# Altium schematic symbol library CS_symbols.SchLib: 156 symbols (part 2 of 2)
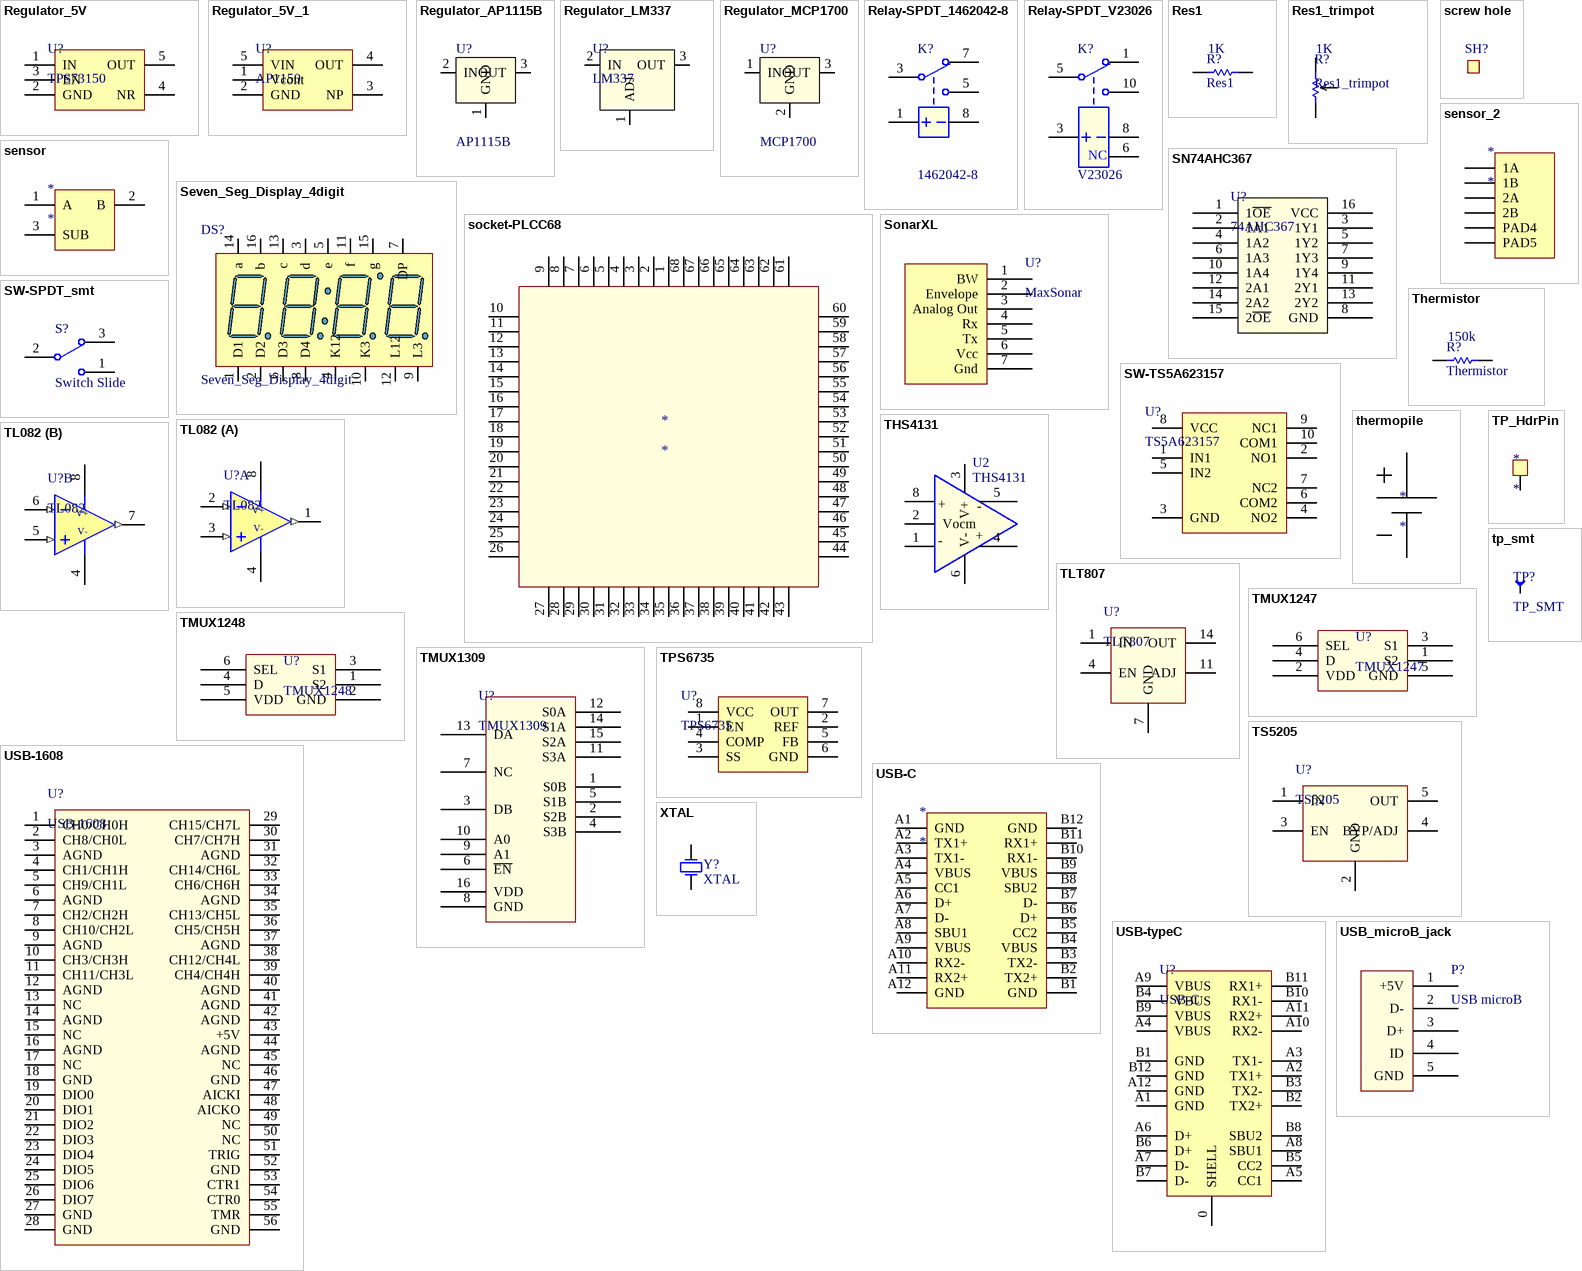
[diagram p7: symbols Regulator_5V to XTAL]

## TMUX1248
designator U?
IC Switch 2:1 3Ohm SC-70-6; manufacturer: Texas Instruments; manufacturer pn: TMUX1248DCKR; supplier pn: 296-TMUX1248DCKRCT-ND; supplier: digikey
footprint SC70
pins: 1 S2, 2 GND, 3 S1, 4 D, 5 VDD, 6 SEL

## TMUX1309
designator U?
2 Circuit IC Switch 4:1 195Ohm 16-WQFN (3.5x2.5); manufacturer: Texas Instruments; manufacturer pn: TMUX1309BQBR; supplier pn: 296-TMUX1309BQBRCT-ND; supplier: digikey
footprint WQFN-16 (Footprint not found)
pins: 1 S0B, 2 S2B, 3 DB, 4 S3B, 5 S1B, 6 ~{EN}, 7 NC, 8 GND, 9 A1, 10 A0, 11 S3A, 12 S0A, 13 DA, 14 S1A, 15 S2A, 16 VDD

## TP_HdrPin
designator *
Testpoint, Header Pin
pins: 1

## tp_smt
designator TP?, comment TP_SMT
testpoint SMT pad
pins: 1 TP

## TPS6735
designator U?
IC REG BUCK -5V 200MA 8SOIC; manufacturer: Texas Instruments; manufacturer pn: TPS6735IDR; supplier pn: 296-10982-1-ND; supplier: digikey
footprint SOIC-8 (SOIC, 8-Leads, Pitch 1.27mm, IPC Medium Density)
pins: 1 EN, 2 REF, 3 SS, 4 COMP, 5 FB, 6 GND, 7 OUT, 8 VCC

## TS5205
designator U?
IC REG LIN POS ADJ 150MA SOT25; manufacturer: TSMC; manufacturer pn: TS5205CX5 RFG; supplier pn: TS5205CX5RFGCT-ND; supplier: digikey
footprint SOT25
pins: 1 IN, 2 GND, 3 EN, 4 BYP/ADJ, 5 OUT

## USB-1608
designator U?
DAQ DEVICE MULTIFUNC I/O USB 2.0
pins: 1 CH0/CH0H, 2 CH8/CH0L, 3 AGND, 4 CH1/CH1H, 5 CH9/CH1L, 6 AGND, 7 CH2/CH2H, 8 CH10/CH2L, 9 AGND, 10 CH3/CH3H, 11 CH11/CH3L, 12 AGND, 13 NC, 14 AGND, 15 NC, 16 AGND, 17 NC, 18 GND, 19 DIO0, 20 DIO1, 21 DIO2, 22 DIO3, 23 DIO4, 24 DIO5, 25 DIO6, 26 DIO7, 27 GND, 28 GND, 29 CH15/CH7L, 30 CH7/CH7H, 31 AGND, 32 CH14/CH6L, 33 CH6/CH6H, 34 AGND, 35 CH13/CH5L, 36 CH5/CH5H, 37 AGND, 38 CH12/CH4L, 39 CH4/CH4H, 40 AGND, 41 AGND, 42 AGND, 43 +5V, 44 AGND, 45 NC, 46 GND, 47 AICKI, 48 AICKO, 49 NC, 50 NC, 51 TRIG, 52 GND, 53 CTR1, 54 CTR0, 55 TMR, 56 GND

## USB-C
designator *
pins: A1 GND, A2 TX1+, A3 TX1-, A4 VBUS, A5 CC1, A6 D+, A7 D-, A8 SBU1, A9 VBUS, A10 RX2-, A11 RX2+, A12 GND, B1 GND, B2 TX2+, B3 TX2-, B4 VBUS, B5 CC2, B6 D+, B7 D-, B8 SBU2, B9 VBUS, B10 RX1-, B11 RX1+, B12 GND

## USB-typeC
designator U?, comment USB-C
pins: 0 SHELL, A1 GND, A2 TX1+, A3 TX1-, A4 VBUS, A5 CC1, A6 D+, A7 D-, A8 SBU1, A9 VBUS, A10 RX2-, A11 RX2+, A12 GND, B1 GND, B2 TX2+, B3 TX2-, B4 VBUS, B5 CC2, B6 D+, B7 D-, B8 SBU2, B9 VBUS, B10 RX1-, B11 RX1+, B12 GND

## USB_microB_jack
designator P?, comment USB microB
CONN RCPT USB2.0 MICRO B SMD R/A; manufacturer: Amphenol; manufacturer pn: 10118192-0001LF; supplier pn: 609-4613-1-ND; supplier: digikey
footprint USB_microB_jack (pcb mount USB micro B jack)
pins: 1 +5V, 2 D-, 3 D+, 4 ID, 5 GND

## XTAL
designator Y?
Crystal Oscillator; Published: 8-Jun-2000; LatestRevisionDate: 17-Jul-2002; LatestRevisionNote: Re-released for DXP Platform.; PackageReference: R38; Publisher: Altium Limited; PackageDescription: Crystal, Thru-Hole; 2 Leads; Body 3.1 x 8.2 mm (Dia.xH)
footprint R38 (Crystal, Thru-Hole; 2 Leads; Body 3.1 x 8.2 mm (Dia.xH))
simulation model XTAL (Spice Subcircuit)
pins: 1 OSC1, 2 OSC2

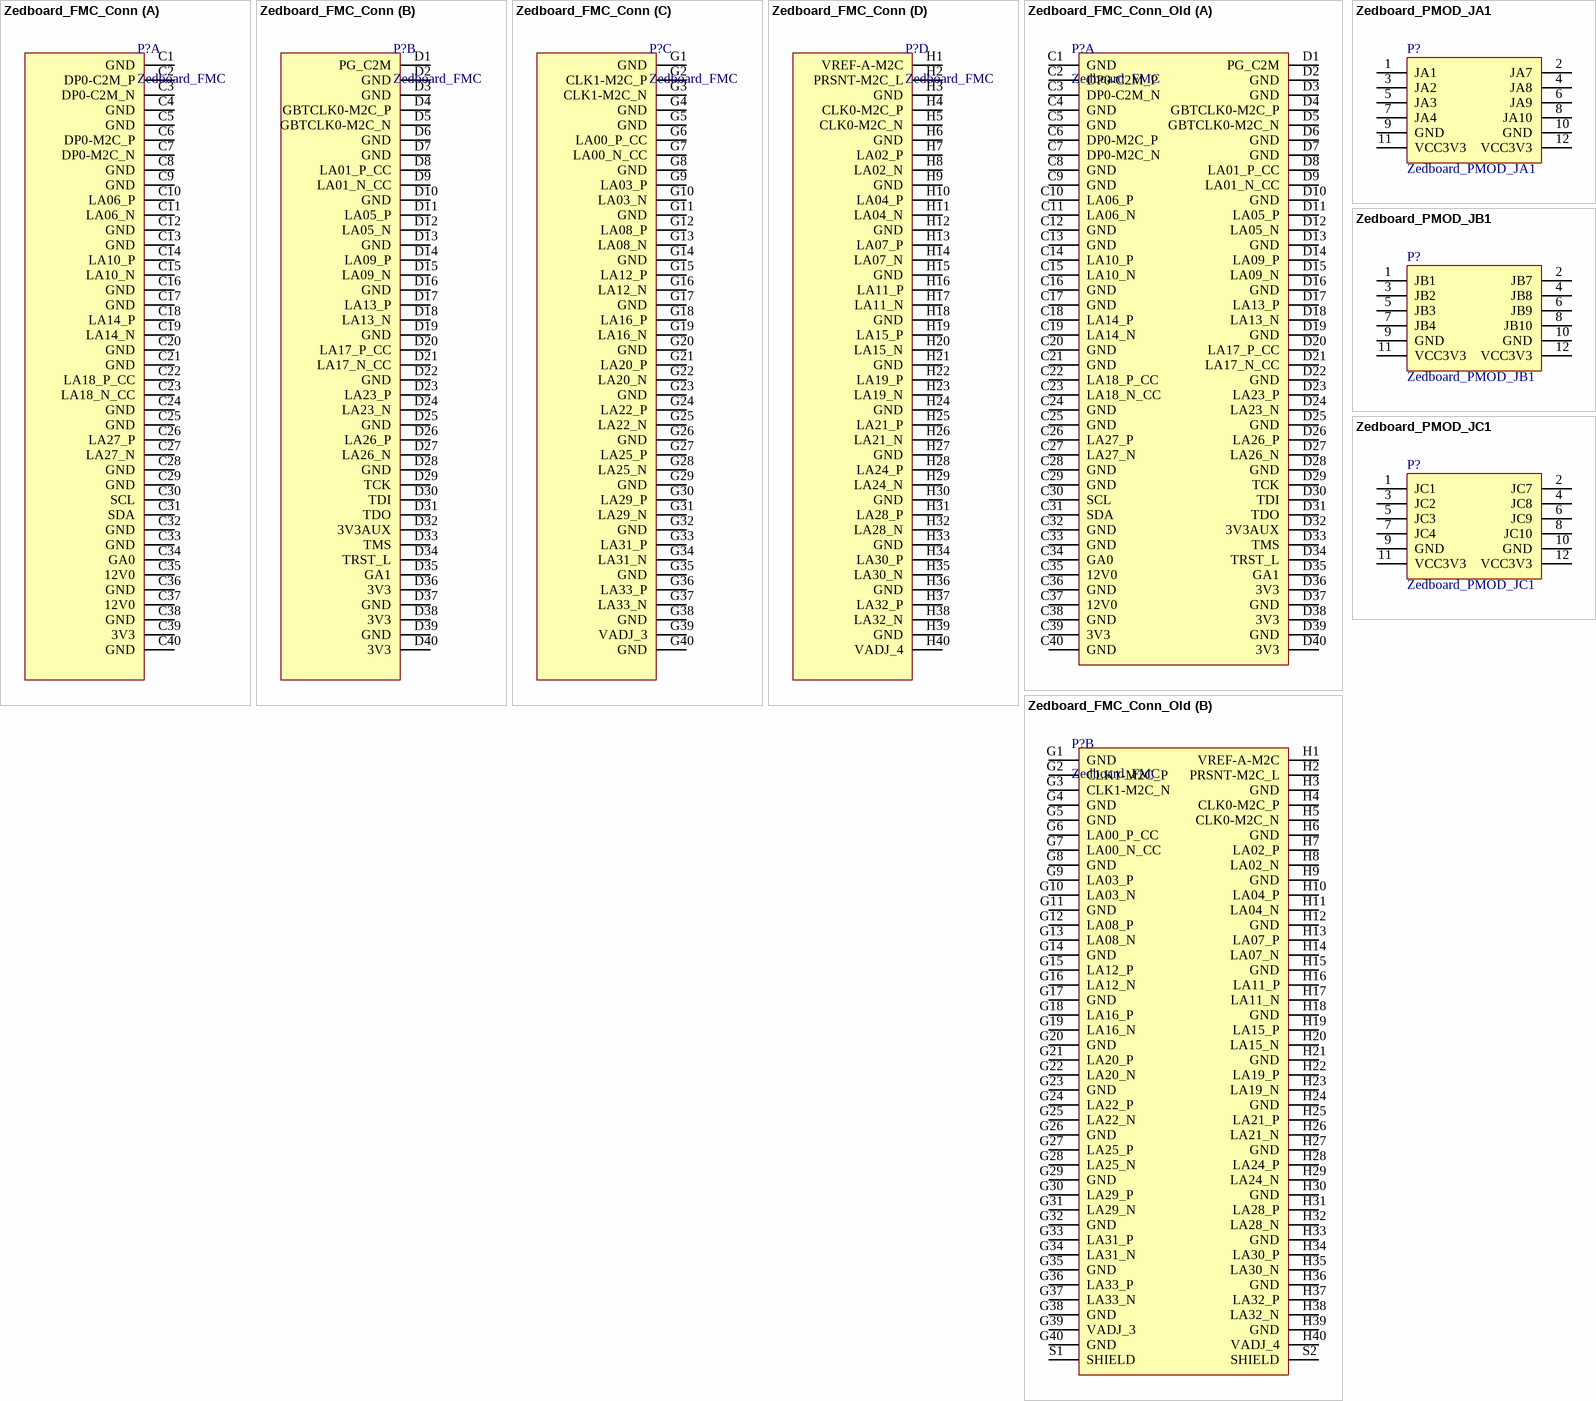
[diagram p6: symbols Zedboard_FMC_Conn to Zedboard_PMOD_JC1]

## Zedboard_FMC_Conn
designator P?, comment Zedboard_FMC
FMC Connector 160POS SMD VITA 57.1; manufacturer: Samtech Inc; manufacturer pn: ASP-134604-01X; supplier: digikey; supplier pn: SAM8732CT-ND
footprint FMC_LPC (FMC low pin count connector that mates to Xilinx zedboard)
part A pins: C1 GND, C2 DP0-C2M_P, C3 DP0-C2M_N, C4 GND, C5 GND, C6 DP0-M2C_P, C7 DP0-M2C_N, C8 GND, C9 GND, C10 LA06_P, C11 LA06_N, C12 GND, C13 GND, C14 LA10_P, C15 LA10_N, C16 GND, C17 GND, C18 LA14_P, C19 LA14_N, C20 GND, C21 GND, C22 LA18_P_CC, C23 LA18_N_CC, C24 GND, C25 GND, C26 LA27_P, C27 LA27_N, C28 GND, C29 GND, C30 SCL, C31 SDA, C32 GND, C33 GND, C34 GA0, C35 12V0, C36 GND, C37 12V0, C38 GND, C39 3V3, C40 GND
part B pins: D1 PG_C2M, D2 GND, D3 GND, D4 GBTCLK0-M2C_P, D5 GBTCLK0-M2C_N, D6 GND, D7 GND, D8 LA01_P_CC, D9 LA01_N_CC, D10 GND, D11 LA05_P, D12 LA05_N, D13 GND, D14 LA09_P, D15 LA09_N, D16 GND, D17 LA13_P, D18 LA13_N, D19 GND, D20 LA17_P_CC, D21 LA17_N_CC, D22 GND, D23 LA23_P, D24 LA23_N, D25 GND, D26 LA26_P, D27 LA26_N, D28 GND, D29 TCK, D30 TDI, D31 TDO, D32 3V3AUX, D33 TMS, D34 TRST_L, D35 GA1, D36 3V3, D37 GND, D38 3V3, D39 GND, D40 3V3
part C pins: G1 GND, G2 CLK1-M2C_P, G3 CLK1-M2C_N, G4 GND, G5 GND, G6 LA00_P_CC, G7 LA00_N_CC, G8 GND, G9 LA03_P, G10 LA03_N, G11 GND, G12 LA08_P, G13 LA08_N, G14 GND, G15 LA12_P, G16 LA12_N, G17 GND, G18 LA16_P, G19 LA16_N, G20 GND, G21 LA20_P, G22 LA20_N, G23 GND, G24 LA22_P, G25 LA22_N, G26 GND, G27 LA25_P, G28 LA25_N, G29 GND, G30 LA29_P, G31 LA29_N, G32 GND, G33 LA31_P, G34 LA31_N, G35 GND, G36 LA33_P, G37 LA33_N, G38 GND, G39 VADJ_3, G40 GND
part D pins: H1 VREF-A-M2C, H2 PRSNT-M2C_L, H3 GND, H4 CLK0-M2C_P, H5 CLK0-M2C_N, H6 GND, H7 LA02_P, H8 LA02_N, H9 GND, H10 LA04_P, H11 LA04_N, H12 GND, H13 LA07_P, H14 LA07_N, H15 GND, H16 LA11_P, H17 LA11_N, H18 GND, H19 LA15_P, H20 LA15_N, H21 GND, H22 LA19_P, H23 LA19_N, H24 GND, H25 LA21_P, H26 LA21_N, H27 GND, H28 LA24_P, H29 LA24_N, H30 GND, H31 LA28_P, H32 LA28_N, H33 GND, H34 LA30_P, H35 LA30_N, H36 GND, H37 LA32_P, H38 LA32_N, H39 GND, H40 VADJ_4

## Zedboard_FMC_Conn_Old
designator P?, comment Zedboard_FMC
FMC Connector 160POS SMD VITA 57.1; manufacturer: Samtech Inc; manufacturer pn: ASP-134604-01X; supplier: digikey; supplier pn: SAM8732CT-ND
footprint FMC_LPC (FMC low pin count connector that mates to Xilinx zedboard)
part A pins: C1 GND, C2 DP0-C2M_P, C3 DP0-C2M_N, C4 GND, C5 GND, C6 DP0-M2C_P, C7 DP0-M2C_N, C8 GND, C9 GND, C10 LA06_P, C11 LA06_N, C12 GND, C13 GND, C14 LA10_P, C15 LA10_N, C16 GND, C17 GND, C18 LA14_P, C19 LA14_N, C20 GND, C21 GND, C22 LA18_P_CC, C23 LA18_N_CC, C24 GND, C25 GND, C26 LA27_P, C27 LA27_N, C28 GND, C29 GND, C30 SCL, C31 SDA, C32 GND, C33 GND, C34 GA0, C35 12V0, C36 GND, C37 12V0, C38 GND, C39 3V3, C40 GND, D1 PG_C2M, D2 GND, D3 GND, D4 GBTCLK0-M2C_P, D5 GBTCLK0-M2C_N, D6 GND, D7 GND, D8 LA01_P_CC, D9 LA01_N_CC, D10 GND, D11 LA05_P, D12 LA05_N, D13 GND, D14 LA09_P, D15 LA09_N, D16 GND, D17 LA13_P, D18 LA13_N, D19 GND, D20 LA17_P_CC, D21 LA17_N_CC, D22 GND, D23 LA23_P, D24 LA23_N, D25 GND, D26 LA26_P, D27 LA26_N, D28 GND, D29 TCK, D30 TDI, D31 TDO, D32 3V3AUX, D33 TMS, D34 TRST_L, D35 GA1, D36 3V3, D37 GND, D38 3V3, D39 GND, D40 3V3
part B pins: G1 GND, G2 CLK1-M2C_P, G3 CLK1-M2C_N, G4 GND, G5 GND, G6 LA00_P_CC, G7 LA00_N_CC, G8 GND, G9 LA03_P, G10 LA03_N, G11 GND, G12 LA08_P, G13 LA08_N, G14 GND, G15 LA12_P, G16 LA12_N, G17 GND, G18 LA16_P, G19 LA16_N, G20 GND, G21 LA20_P, G22 LA20_N, G23 GND, G24 LA22_P, G25 LA22_N, G26 GND, G27 LA25_P, G28 LA25_N, G29 GND, G30 LA29_P, G31 LA29_N, G32 GND, G33 LA31_P, G34 LA31_N, G35 GND, G36 LA33_P, G37 LA33_N, G38 GND, G39 VADJ_3, G40 GND, H1 VREF-A-M2C, H2 PRSNT-M2C_L, H3 GND, H4 CLK0-M2C_P, H5 CLK0-M2C_N, H6 GND, H7 LA02_P, H8 LA02_N, H9 GND, H10 LA04_P, H11 LA04_N, H12 GND, H13 LA07_P, H14 LA07_N, H15 GND, H16 LA11_P, H17 LA11_N, H18 GND, H19 LA15_P, H20 LA15_N, H21 GND, H22 LA19_P, H23 LA19_N, H24 GND, H25 LA21_P, H26 LA21_N, H27 GND, H28 LA24_P, H29 LA24_N, H30 GND, H31 LA28_P, H32 LA28_N, H33 GND, H34 LA30_P, H35 LA30_N, H36 GND, H37 LA32_P, H38 LA32_N, H39 GND, H40 VADJ_4, S1 SHIELD, S2 SHIELD

## Zedboard_PMOD_JA1
designator P?
Zedboard PMOD Header JA1, 6-Pin, Dual row; LatestRevisionDate: 17-Jul-2002; LatestRevisionNote: Re-released for DXP Platform.; Publisher: Altium Limited
footprint HDR2X6 (Connector; Header; 6x2 Position)
signal-integrity model Connector
pins: 1 JA1, 2 JA7, 3 JA2, 4 JA8, 5 JA3, 6 JA9, 7 JA4, 8 JA10, 9 GND, 10 GND, 11 VCC3V3, 12 VCC3V3

## Zedboard_PMOD_JB1
designator P?
Zedboard PMOD Header JB1, 6-Pin, Dual row; LatestRevisionDate: 17-Jul-2002; LatestRevisionNote: Re-released for DXP Platform.; Publisher: Altium Limited
footprint HDR2X6 (Connector; Header; 6x2 Position)
signal-integrity model Connector
pins: 1 JB1, 2 JB7, 3 JB2, 4 JB8, 5 JB3, 6 JB9, 7 JB4, 8 JB10, 9 GND, 10 GND, 11 VCC3V3, 12 VCC3V3

## Zedboard_PMOD_JC1
designator P?
Zedboard PMOD Header JC1, 6-Pin, Dual row; LatestRevisionDate: 17-Jul-2002; LatestRevisionNote: Re-released for DXP Platform.; Publisher: Altium Limited
footprint HDR2X6 (Connector; Header; 6x2 Position)
signal-integrity model Connector
pins: 1 JC1, 2 JC7, 3 JC2, 4 JC8, 5 JC3, 6 JC9, 7 JC4, 8 JC10, 9 GND, 10 GND, 11 VCC3V3, 12 VCC3V3